# Altium schematic symbol library IRFR3205(TO-220).SchLib: 1 symbol
Pins are listed as number, name and electrical type; pins without a type are passive.

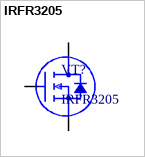
[diagram p0: symbol IRFR3205]

## IRFR3205
designator VT?
footprint TO-220(bend2)
pins: 1 G, 2 D, 3 S